# Altium integrated library Infineon_Microcontroller.IntLib: 721 symbols (part 8 of 66)
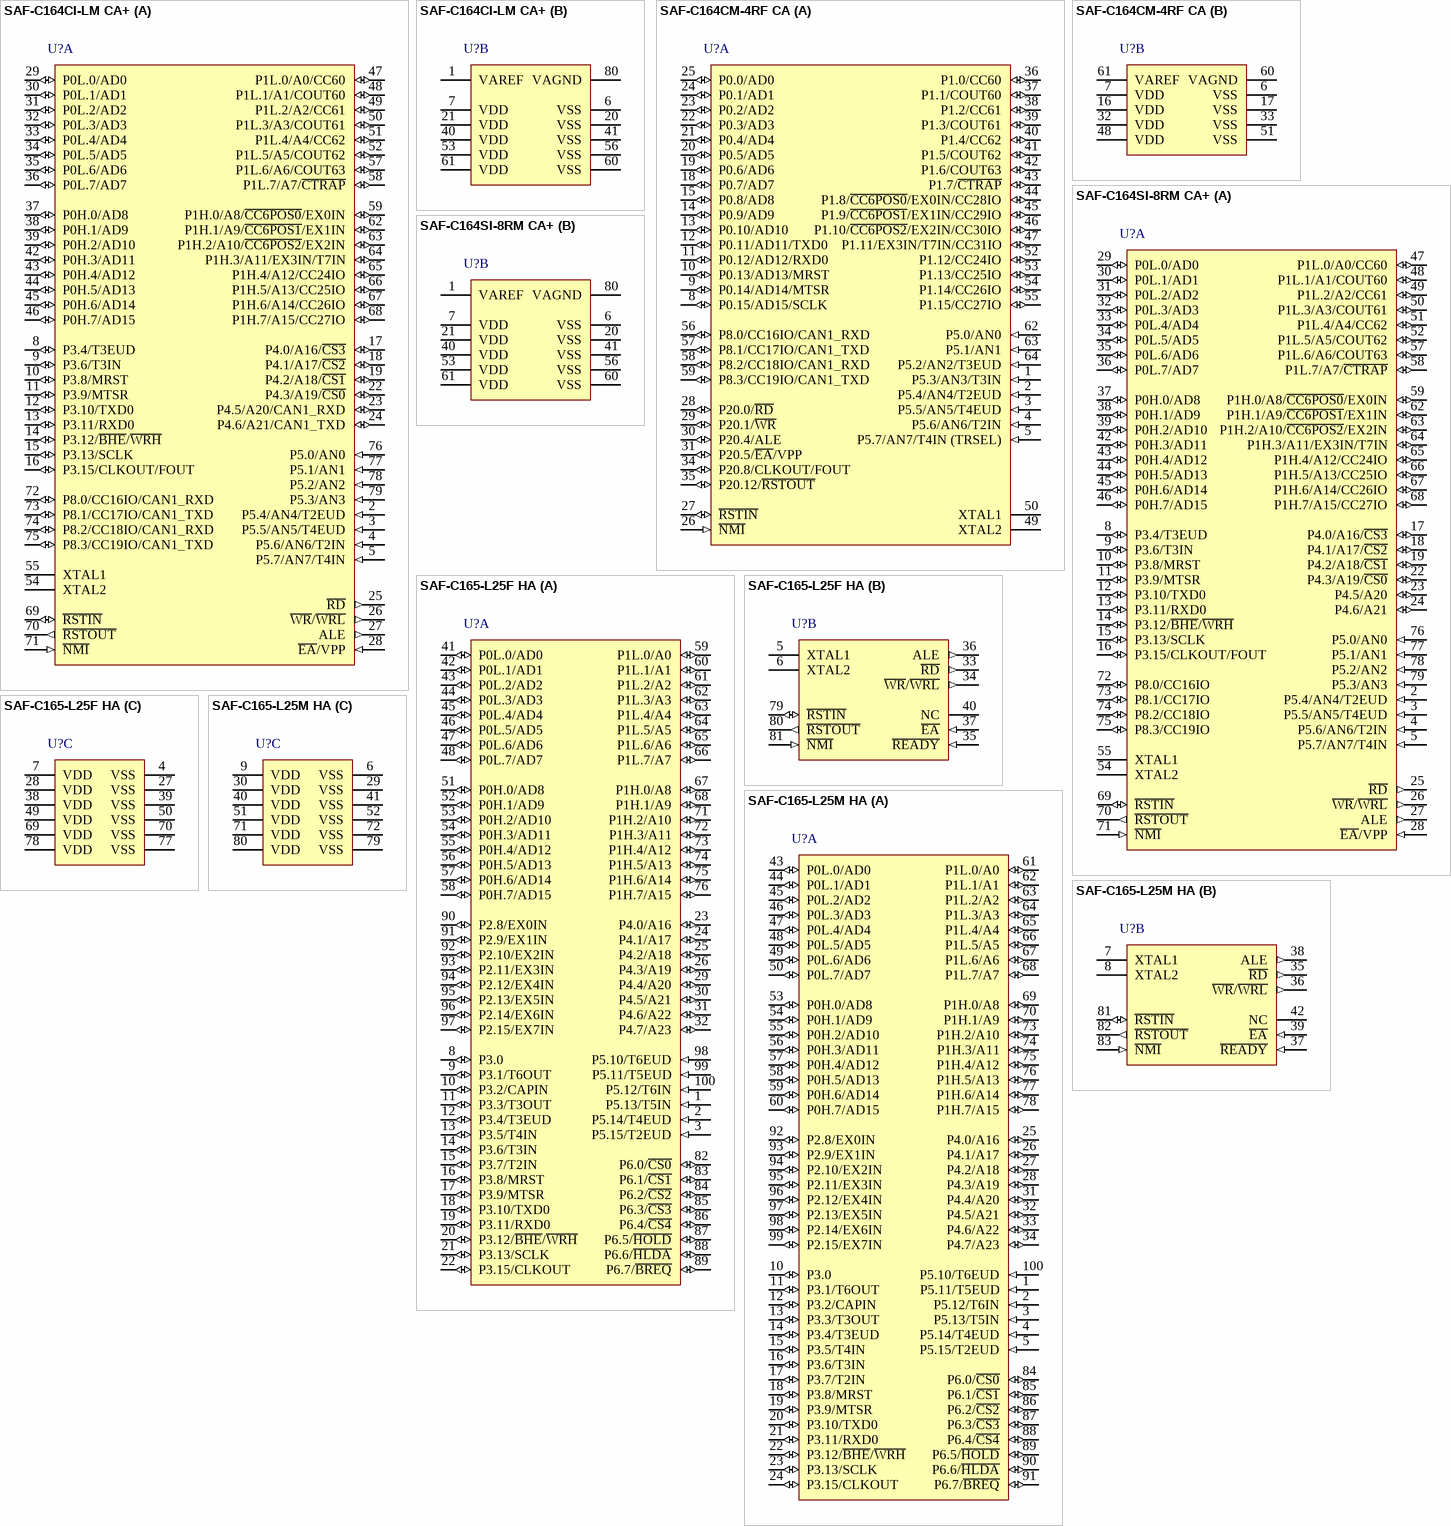
[diagram p125: symbols SAF-C164CI-LM CA+ to SAF-C165-L25M HA]

## SAF-C165-L25M HA
designator U?
25 MHz C166 MCU without Program Memory, 2 KByte SRAM, 5 V, -40 to 85 degC, PG-MQFP-100, Reel, Green; Manufacturer: Infineon; PartNumber: SAF-C165-L25M HA; A / D input lines (incl. FADC): 0; Digital I/O Lines: 77; DSP functionality (e.g MDU/MAC): TRUE; I/O Operation Voltages: 5 V; Instruction width [bits]: 16; Max Clock Frequency: 25 MHz; Oscillator Watchdog: FALSE; Power Modes: 3; Serial I/O Interfaces: 2; SRAM (incl. Cache): 2 KByte; Timer / Counter: 5; Type of Memory: ROM less; Type of Serial I/O Interfaces: ASC(1), SSC(1); DatasheetVersion: Rev. 2.0; PackageVersion: V2.0, 12/2000; PackageReference: P-TQFP-100-1; PackageDescription: 100-Pin Plastic Thin Metric Quad Flat Package, Body 14 x 14 mm, Pitch 0.5 mm; Supplier 1: Mouser; Supplier Part Number 1: 726-SAFC165L25MHA; Supplier 2: Digi-Key; Supplier Part Number 2: SAF-C165-L25MHAINTR-ND; Supplier 3: Digi-Key; Supplier Part Number 3: SAF-C165-L25MHAINCT-ND; CAN Nodes: 0; DMA Channels: 0; External Bus interface: TRUE; Green: TRUE; Halogen-free: TRUE; Number of ADC Modules: 0; Packing: Reel; Real Time Clock (RTC): FALSE; Timed I/O Pins (PWM-Ch,CAPCOM): 0; Watchdog Timer: TRUE; Mounting Technology: Surface Mount; ComponentLink1Description: Manufacturer URL; ComponentLink1URL: http://www.infineon.com/; ComponentLink2Description: Datasheet; ComponentLink2URL: http://www.infineon.com/dgdl/c165_ds_v20_2000_12_3.pdf?folderId=db3a304412b407950112b408e8c90004&fileId=db3a304412b407950112b43605e9644c; ComponentLink3Description: Package Specification; ComponentLink3URL: http://www.google.com/url?q=http://www.infineon.com/dgdl/c165_ds_v20_2000_12_1.pdf?folderId%3Ddb3a304412b407950112b408e8c90004%26fileId%3Ddb3a304412b407950112b43a4ef16fe7&sa=D&usg=ALhdy28l__9bJHCFc89ioLI6B1XModLc3w
footprint INF-P-TQFP-100-1_N (QFP, 100-Leads, Body 14x14mm, Pitch 0.5mm, IPC Medium Density)
footprint INF-P-TQFP-100-1_L (QFP, 100-Leads, Body 14x14mm, Pitch 0.5mm, IPC High Density)
footprint INF-P-TQFP-100-1_M (QFP, 100-Leads, Body 14x14mm, Pitch 0.5mm, IPC Low Density)
part A pins: 1 P5.11/T5EUD (in), 2 P5.12/T6IN (in), 3 P5.13/T5IN (in), 4 P5.14/T4EUD (in), 5 P5.15/T2EUD (in), 10 P3.0 (io) "15-bit bidirectional I/O port. It is bit-wise programmable for input or output via direction bits.For a pin configured as input, the output driver is put into high-impedance state. Port 3 outputs can be configured as (See Datasheet)", 11 P3.1/T6OUT (io), 12 P3.2/CAPIN (io), 13 P3.3/T3OUT (io), 14 P3.4/T3EUD (io), 15 P3.5/T4IN (io), 16 P3.6/T3IN (io), 17 P3.7/T2IN (io), 18 P3.8/MRST (io), 19 P3.9/MTSR (io), 20 P3.10/TXD0 (io), 21 P3.11/RXD0 (io), 22 P3.12/~{BHE}/~{WRH} (io), 23 P3.13/SCLK (io), 24 P3.15/CLKOUT (io), 25 P4.0/A16 (io), 26 P4.1/A17 (io), 27 P4.2/A18 (io), 28 P4.3/A19 (io), 31 P4.4/A20 (io), 32 P4.5/A21 (io), 33 P4.6/A22 (io), 34 P4.7/A23 (io), 43 P0L.0/AD0 (io), 44 P0L.1/AD1 (io), 45 P0L.2/AD2 (io), 46 P0L.3/AD3 (io), 47 P0L.4/AD4 (io), 48 P0L.5/AD5 (io), 49 P0L.6/AD6 (io), 50 P0L.7/AD7 (io), 53 P0H.0/AD8 (io), 54 P0H.1/AD9 (io), 55 P0H.2/AD10 (io), 56 P0H.3/AD11 (io), 57 P0H.4/AD12 (io), 58 P0H.5/AD13 (io), 59 P0H.6/AD14 (io), 60 P0H.7/AD15 (io), 61 P1L.0/A0 (io), 62 P1L.1/A1 (io), 63 P1L.2/A2 (io), 64 P1L.3/A3 (io), 65 P1L.4/A4 (io), 66 P1L.5/A5 (io), 67 P1L.6/A6 (io), 68 P1L.7/A7 (io), 69 P1H.0/A8 (io), 70 P1H.1/A9 (io), 73 P1H.2/A10 (io), 74 P1H.3/A11 (io), 75 P1H.4/A12 (io), 76 P1H.5/A13 (io), 77 P1H.6/A14 (io), 78 P1H.7/A15 (io), 84 P6.0/~{CS0} (io), 85 P6.1/~{CS1} (io), 86 P6.2/~{CS2} (io), 87 P6.3/~{CS3} (io), 88 P6.4/~{CS4} (io), 89 P6.5/~{HOLD} (io), 90 P6.6/~{HLDA} (io), 91 P6.7/~{BREQ} (io), 92 P2.8/EX0IN (io), 93 P2.9/EX1IN (io), 94 P2.10/EX2IN (io), 95 P2.11/EX3IN (io), 96 P2.12/EX4IN (io), 97 P2.13/EX5IN (io), 98 P2.14/EX6IN (io), 99 P2.15/EX7IN (io), 100 P5.10/T6EUD (in)
part B pins: 7 XTAL1 "Input to the oscillator amplifier and input to the internal clock generator", 8 XTAL2 "Output of the oscillator amplifier circuit.", 35 ~{RD} (out) "External Memory Read Strobe. R\D\ is activated for every external instruction or data read access.", 36 ~{WR}/~{WRL} (out) "External MemoryWrite Strobe. In W\R\-mode this pin is activated for every external data Write access. In W\R\L\-mode this pin is activated for low byte data write accesses on a 16-bit bus, and for every data W\R\ite access (See Datasheet)", 37 ~{READY} (in) "Ready Input. When the Ready function is enabled, a high level at this pin during an external memory access will force the insertion of memory cycle waitstates until the pin returns to a low level. An internal pullup device (See Datasheet)", 38 ALE (out) "Address Latch Enable Output. Can be used for latching the address into external memory or an address latch in the multiplexed bus modes.", 39 ~{EA} (in) "External Access Enable pin. A low level at this pin during and after Reset forces the C165 to begin instruction execution out of external memory. A high level forces execution out of the internal program memory. (See Datasheet)", 42 NC "This pin is not connected in the C165.", 81 ~{RSTIN} (io) "Reset Input with Schmitt-Trigger characteristics. A low level at this pin while the oscillator is running resets the C165. An internal pullup resistor permits power-on reset using only a capacitor connected to VSS. A spike (See Datasheet)", 82 ~{RSTOUT} (out) "Internal Reset Indication Output. This pin is set to a low level when the part is executing either a hardware-, a software- or a watchdog timer reset. R\S\T\O\U\T\ remains low until the EINIT (end of initialization) (See Datasheet)", 83 ~{NMI} (in) "Non-Maskable Interrupt Input. A high to low transition at this pin causes the CPU to vector to the NMI trap routine. When the PWRDN (power down) instruction is executed, the N\M\I\ pin must be low in order to force the C165 (See Datasheet)"
part C pins: 6 VSS (power) "Digital Ground.", 9 VDD (power) "Digital Supply Voltage:+ 5 V or + 3 V during normal operation and idle mode.= 2.5 V during power down mode.", 29 VSS (power) "Digital Ground.", 30 VDD (power) "Digital Supply Voltage:+ 5 V or + 3 V during normal operation and idle mode.= 2.5 V during power down mode.", 40 VDD (power) "Digital Supply Voltage:+ 5 V or + 3 V during normal operation and idle mode.= 2.5 V during power down mode.", 41 VSS (power) "Digital Ground.", 51 VDD (power) "Digital Supply Voltage:+ 5 V or + 3 V during normal operation and idle mode.= 2.5 V during power down mode.", 52 VSS (power) "Digital Ground.", 71 VDD (power) "Digital Supply Voltage:+ 5 V or + 3 V during normal operation and idle mode.= 2.5 V during power down mode.", 72 VSS (power) "Digital Ground.", 79 VSS (power) "Digital Ground.", 80 VDD (power) "Digital Supply Voltage:+ 5 V or + 3 V during normal operation and idle mode.= 2.5 V during power down mode."

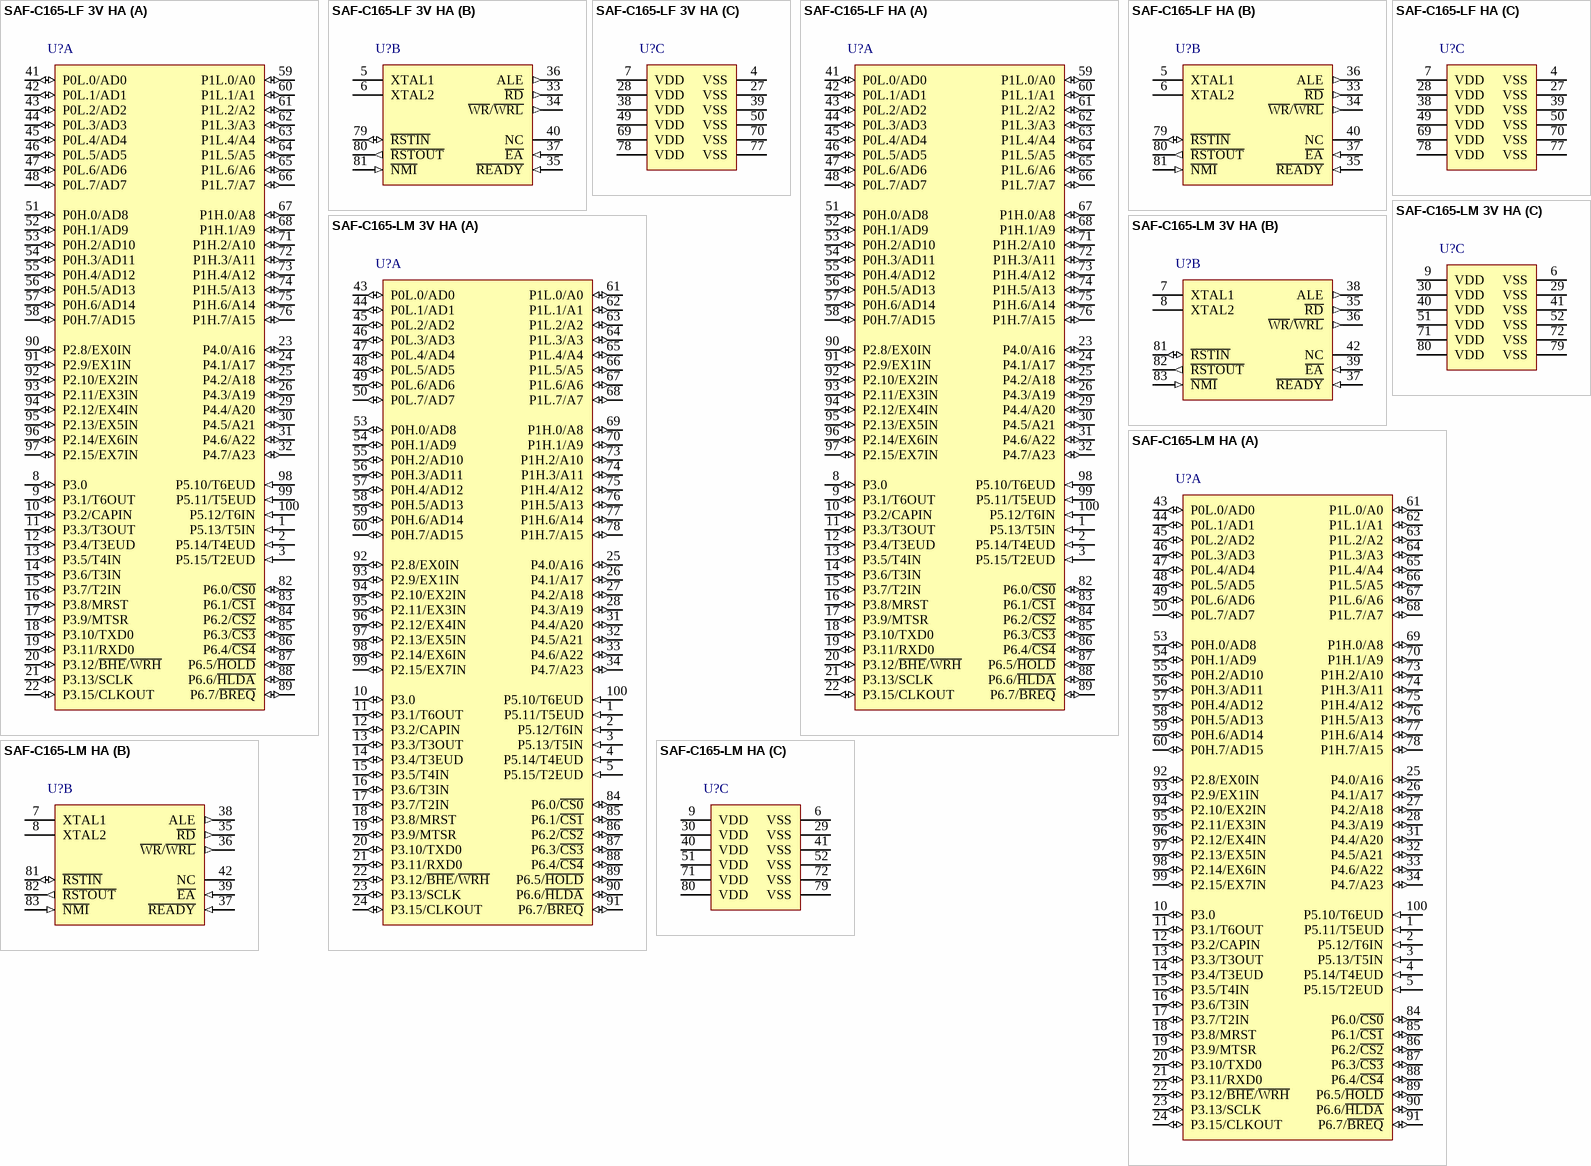
[diagram p11: symbols SAF-C165-LF 3V HA to SAF-C165-LM HA]

## SAF-C165-LF 3V HA
designator U?
20 MHz C166 MCU without Program Memory, 2 KByte SRAM, 3.3 V, -40 to 85 degC, PG-TQFP-100, Reel, Green; Manufacturer: Infineon; PartNumber: SAF-C165-LF 3V HA; A / D input lines (incl. FADC): 0; Digital I/O Lines: 77; DSP functionality (e.g MDU/MAC): TRUE; I/O Operation Voltages: 3.3 V; Instruction width [bits]: 16; Max Clock Frequency: 20 MHz; Oscillator Watchdog: FALSE; Power Modes: 3; Serial I/O Interfaces: 2; SRAM (incl. Cache): 2 KByte; Timer / Counter: 5; Type of Memory: ROM less; Type of Serial I/O Interfaces: ASC(1), SSC(1); DatasheetVersion: Rev. 2.0; PackageVersion: V2.0, 12/2000; PackageReference: P-TQFP-100-1; PackageDescription: 100-Pin Plastic Thin Metric Quad Flat Package, Body 14 x 14 mm, Pitch 0.5 mm; Supplier 1: Digi-Key; Supplier Part Number 1: SAF-C165-LF3VHAINTR-ND; Supplier 2: Digi-Key; Supplier Part Number 2: SAF-C165-LF3VHAINCT-ND; Supplier 3: Digi-Key; Supplier Part Number 3: SAF-C165-LF3VHAINDKR-ND; CAN Nodes: 0; DMA Channels: 0; External Bus interface: TRUE; Green: TRUE; Halogen-free: TRUE; Number of ADC Modules: 0; Packing: Reel; Real Time Clock (RTC): FALSE; Timed I/O Pins (PWM-Ch,CAPCOM): 0; Watchdog Timer: TRUE; Mounting Technology: Surface Mount; ComponentLink1Description: Manufacturer URL; ComponentLink1URL: http://www.infineon.com/; ComponentLink2Description: Datasheet; ComponentLink2URL: http://www.infineon.com/dgdl/c165_ds_v20_2000_12_2.pdf?folderId=db3a304412b407950112b408e8c90004&fileId=db3a304412b407950112b43600b36448; ComponentLink3Description: Package Specification; ComponentLink3URL: http://www.google.com/url?q=http://www.infineon.com/dgdl/c165_ds_v20_2000_12_1.pdf?folderId%3Ddb3a304412b407950112b408e8c90004%26fileId%3Ddb3a304412b407950112b43a4ef16fe7&sa=D&usg=ALhdy28l__9bJHCFc89ioLI6B1XModLc3w
footprint INF-P-TQFP-100-1_N (QFP, 100-Leads, Body 14x14mm, Pitch 0.5mm, IPC Medium Density)
footprint INF-P-TQFP-100-1_L (QFP, 100-Leads, Body 14x14mm, Pitch 0.5mm, IPC High Density)
footprint INF-P-TQFP-100-1_M (QFP, 100-Leads, Body 14x14mm, Pitch 0.5mm, IPC Low Density)
part A pins: 1 P5.13/T5IN (in), 2 P5.14/T4EUD (in), 3 P5.15/T2EUD (in), 8 P3.0 (io) "15-bit bidirectional I/O port. It is bit-wise programmable for input or output via direction bits.For a pin configured as input, the output driver is put into high-impedance state. Port 3 outputs can be configured as (See Datasheet)", 9 P3.1/T6OUT (io), 10 P3.2/CAPIN (io), 11 P3.3/T3OUT (io), 12 P3.4/T3EUD (io), 13 P3.5/T4IN (io), 14 P3.6/T3IN (io), 15 P3.7/T2IN (io), 16 P3.8/MRST (io), 17 P3.9/MTSR (io), 18 P3.10/TXD0 (io), 19 P3.11/RXD0 (io), 20 P3.12/~{BHE}/~{WRH} (io), 21 P3.13/SCLK (io), 22 P3.15/CLKOUT (io), 23 P4.0/A16 (io), 24 P4.1/A17 (io), 25 P4.2/A18 (io), 26 P4.3/A19 (io), 29 P4.4/A20 (io), 30 P4.5/A21 (io), 31 P4.6/A22 (io), 32 P4.7/A23 (io), 41 P0L.0/AD0 (io), 42 P0L.1/AD1 (io), 43 P0L.2/AD2 (io), 44 P0L.3/AD3 (io), 45 P0L.4/AD4 (io), 46 P0L.5/AD5 (io), 47 P0L.6/AD6 (io), 48 P0L.7/AD7 (io), 51 P0H.0/AD8 (io), 52 P0H.1/AD9 (io), 53 P0H.2/AD10 (io), 54 P0H.3/AD11 (io), 55 P0H.4/AD12 (io), 56 P0H.5/AD13 (io), 57 P0H.6/AD14 (io), 58 P0H.7/AD15 (io), 59 P1L.0/A0 (io), 60 P1L.1/A1 (io), 61 P1L.2/A2 (io), 62 P1L.3/A3 (io), 63 P1L.4/A4 (io), 64 P1L.5/A5 (io), 65 P1L.6/A6 (io), 66 P1L.7/A7 (io), 67 P1H.0/A8 (io), 68 P1H.1/A9 (io), 71 P1H.2/A10 (io), 72 P1H.3/A11 (io), 73 P1H.4/A12 (io), 74 P1H.5/A13 (io), 75 P1H.6/A14 (io), 76 P1H.7/A15 (io), 82 P6.0/~{CS0} (io), 83 P6.1/~{CS1} (io), 84 P6.2/~{CS2} (io), 85 P6.3/~{CS3} (io), 86 P6.4/~{CS4} (io), 87 P6.5/~{HOLD} (io), 88 P6.6/~{HLDA} (io), 89 P6.7/~{BREQ} (io), 90 P2.8/EX0IN (io), 91 P2.9/EX1IN (io), 92 P2.10/EX2IN (io), 93 P2.11/EX3IN (io), 94 P2.12/EX4IN (io), 95 P2.13/EX5IN (io), 96 P2.14/EX6IN (io), 97 P2.15/EX7IN (io), 98 P5.10/T6EUD (in), 99 P5.11/T5EUD (in), 100 P5.12/T6IN (in)
part B pins: 5 XTAL1 "Input to the oscillator amplifier and input to the internal clock generator", 6 XTAL2 "Output of the oscillator amplifier circuit.", 33 ~{RD} (out) "External Memory Read Strobe. R\D\ is activated for every external instruction or data read access.", 34 ~{WR}/~{WRL} (out) "External MemoryWrite Strobe. In W\R\-mode this pin is activated for every external data Write access. In W\R\L\-mode this pin is activated for low byte data WRCFG accesses on a 16-bit bus, and for every data wriite access on (See Datasheet)", 35 ~{READY} (in) "Ready Input. When the Ready function is enabled, a high level at this pin during an external memory access will force the insertion of memory cycle waitstates until the pin returns to a low level. An internal pullup device (See Datasheet)", 36 ALE (out) "Address Latch Enable Output. Can be used for latching the address into external memory or an address latch in the multiplexed bus modes.", 37 ~{EA} (in) "External Access Enable pin. A low level at this pin during and after Reset forces the C165 to begin instruction execution out of external memory. A high level forces execution out of the internal program memory. (See Datasheet)", 40 NC "This pin is not connected in the C165.", 79 ~{RSTIN} (io) "Reset Input with Schmitt-Trigger characteristics. A low level at this pin while the oscillator is running resets the C165. An internal pullup resistor permits power-on reset using only a capacitor connected to VSS. A spike (See Datasheet)", 80 ~{RSTOUT} (out) "Internal Reset Indication Output. This pin is set to a low level when the part is executing either a hardware-, a software- or a watchdog timer reset. R\S\T\O\U\T\ remains low until the EINIT (end of initialization) (See Datasheet)", 81 ~{NMI} (in) "Non-Maskable Interrupt Input. A high to low transition at this pin causes the CPU to vector to the NMI trap routine. When the PWRDN (power down) instruction is executed, the N\M\I\ pin must be low in order to force the C165 (See Datasheet)"
part C pins: 4 VSS (power) "Digital Ground.", 7 VDD (power) "Digital Supply Voltage:+ 5 V or + 3 V during normal operation and idle mode.>= 2.5 V during power down mode.", 27 VSS (power) "Digital Ground.", 28 VDD (power) "Digital Supply Voltage:+ 5 V or + 3 V during normal operation and idle mode.>= 2.5 V during power down mode.", 38 VDD (power) "Digital Supply Voltage:+ 5 V or + 3 V during normal operation and idle mode.>= 2.5 V during power down mode.", 39 VSS (power) "Digital Ground.", 49 VDD (power) "Digital Supply Voltage:+ 5 V or + 3 V during normal operation and idle mode.>= 2.5 V during power down mode.", 50 VSS (power) "Digital Ground.", 69 VDD (power) "Digital Supply Voltage:+ 5 V or + 3 V during normal operation and idle mode.>= 2.5 V during power down mode.", 70 VSS (power) "Digital Ground.", 77 VSS (power) "Digital Ground.", 78 VDD (power) "Digital Supply Voltage:+ 5 V or + 3 V during normal operation and idle mode.>= 2.5 V during power down mode."

## SAF-C165-LF HA
designator U?
20 MHz C166 MCU without Program Memory, 2 KByte SRAM, 5 V, -40 to 85 degC, PG-TQFP-100, Reel, Green; Manufacturer: Infineon; PartNumber: SAF-C165-LF HA; A / D input lines (incl. FADC): 0; Digital I/O Lines: 77; DSP functionality (e.g MDU/MAC): TRUE; I/O Operation Voltages: 5 V; Instruction width [bits]: 16; Max Clock Frequency: 20 MHz; Oscillator Watchdog: FALSE; Power Modes: 3; Serial I/O Interfaces: 2; SRAM (incl. Cache): 2 KByte; Timer / Counter: 5; Type of Memory: ROM less; Type of Serial I/O Interfaces: ASC(1), SSC(1); DatasheetVersion: Rev. 2.0; PackageVersion: V2.0, 12/2000; PackageReference: P-TQFP-100-1; PackageDescription: 100-Pin Plastic Thin Metric Quad Flat Package, Body 14 x 14 mm, Pitch 0.5 mm; Supplier 1: Mouser; Supplier Part Number 1: 726-SAFC165LFHA; Supplier 2: Digi-Key; Supplier Part Number 2: SAF-C165-LFHAINTR-ND; Supplier 3: Digi-Key; Supplier Part Number 3: SAF-C165-LFHAINCT-ND; Supplier 4: Digi-Key; Supplier Part Number 4: SAF-C165-LFHAINDKR-ND; CAN Nodes: 0; DMA Channels: 0; External Bus interface: TRUE; Green: TRUE; Halogen-free: TRUE; Number of ADC Modules: 0; Packing: Reel; Real Time Clock (RTC): FALSE; Timed I/O Pins (PWM-Ch,CAPCOM): 0; Watchdog Timer: TRUE; Mounting Technology: Surface Mount; ComponentLink1Description: Manufacturer URL; ComponentLink1URL: http://www.infineon.com/; ComponentLink2Description: Datasheet; ComponentLink2URL: http://www.infineon.com/dgdl/c165_ds_v20_2000_12_6.pdf?folderId=db3a304412b407950112b408e8c90004&fileId=db3a304412b407950112b43627ad64d8; ComponentLink3Description: Package Specification; ComponentLink3URL: http://www.google.com/url?q=http://www.infineon.com/dgdl/c165_ds_v20_2000_12_1.pdf?folderId%3Ddb3a304412b407950112b408e8c90004%26fileId%3Ddb3a304412b407950112b43a4ef16fe7&sa=D&usg=ALhdy28l__9bJHCFc89ioLI6B1XModLc3w
footprint INF-P-TQFP-100-1_N (QFP, 100-Leads, Body 14x14mm, Pitch 0.5mm, IPC Medium Density)
footprint INF-P-TQFP-100-1_L (QFP, 100-Leads, Body 14x14mm, Pitch 0.5mm, IPC High Density)
footprint INF-P-TQFP-100-1_M (QFP, 100-Leads, Body 14x14mm, Pitch 0.5mm, IPC Low Density)
part A pins: 1 P5.13/T5IN (in), 2 P5.14/T4EUD (in), 3 P5.15/T2EUD (in), 8 P3.0 (io) "15-bit bidirectional I/O port. It is bit-wise programmable for input or output via direction bits.For a pin configured as input, the output driver is put into high-impedance state. Port 3 outputs can be configured as (See Datasheet)", 9 P3.1/T6OUT (io), 10 P3.2/CAPIN (io), 11 P3.3/T3OUT (io), 12 P3.4/T3EUD (io), 13 P3.5/T4IN (io), 14 P3.6/T3IN (io), 15 P3.7/T2IN (io), 16 P3.8/MRST (io), 17 P3.9/MTSR (io), 18 P3.10/TXD0 (io), 19 P3.11/RXD0 (io), 20 P3.12/~{BHE}/~{WRH} (io), 21 P3.13/SCLK (io), 22 P3.15/CLKOUT (io), 23 P4.0/A16 (io), 24 P4.1/A17 (io), 25 P4.2/A18 (io), 26 P4.3/A19 (io), 29 P4.4/A20 (io), 30 P4.5/A21 (io), 31 P4.6/A22 (io), 32 P4.7/A23 (io), 41 P0L.0/AD0 (io), 42 P0L.1/AD1 (io), 43 P0L.2/AD2 (io), 44 P0L.3/AD3 (io), 45 P0L.4/AD4 (io), 46 P0L.5/AD5 (io), 47 P0L.6/AD6 (io), 48 P0L.7/AD7 (io), 51 P0H.0/AD8 (io), 52 P0H.1/AD9 (io), 53 P0H.2/AD10 (io), 54 P0H.3/AD11 (io), 55 P0H.4/AD12 (io), 56 P0H.5/AD13 (io), 57 P0H.6/AD14 (io), 58 P0H.7/AD15 (io), 59 P1L.0/A0 (io), 60 P1L.1/A1 (io), 61 P1L.2/A2 (io), 62 P1L.3/A3 (io), 63 P1L.4/A4 (io), 64 P1L.5/A5 (io), 65 P1L.6/A6 (io), 66 P1L.7/A7 (io), 67 P1H.0/A8 (io), 68 P1H.1/A9 (io), 71 P1H.2/A10 (io), 72 P1H.3/A11 (io), 73 P1H.4/A12 (io), 74 P1H.5/A13 (io), 75 P1H.6/A14 (io), 76 P1H.7/A15 (io), 82 P6.0/~{CS0} (io), 83 P6.1/~{CS1} (io), 84 P6.2/~{CS2} (io), 85 P6.3/~{CS3} (io), 86 P6.4/~{CS4} (io), 87 P6.5/~{HOLD} (io), 88 P6.6/~{HLDA} (io), 89 P6.7/~{BREQ} (io), 90 P2.8/EX0IN (io), 91 P2.9/EX1IN (io), 92 P2.10/EX2IN (io), 93 P2.11/EX3IN (io), 94 P2.12/EX4IN (io), 95 P2.13/EX5IN (io), 96 P2.14/EX6IN (io), 97 P2.15/EX7IN (io), 98 P5.10/T6EUD (in), 99 P5.11/T5EUD (in), 100 P5.12/T6IN (in)
part B pins: 5 XTAL1 "Input to the oscillator amplifier and input to the internal clock generator", 6 XTAL2 "Output of the oscillator amplifier circuit.", 33 ~{RD} (out) "External Memory Read Strobe. R\D\ is activated for every external instruction or data read access.", 34 ~{WR}/~{WRL} (out) "External MemoryWrite Strobe. In W\R\-mode this pin is activated for every external data Write access. In W\R\L\-mode this pin is activated for low byte data WRCFG accesses on a 16-bit bus, and for every data wriite access on (See Datasheet)", 35 ~{READY} (in) "Ready Input. When the Ready function is enabled, a high level at this pin during an external memory access will force the insertion of memory cycle waitstates until the pin returns to a low level. An internal pullup device (See Datasheet)", 36 ALE (out) "Address Latch Enable Output. Can be used for latching the address into external memory or an address latch in the multiplexed bus modes.", 37 ~{EA} (in) "External Access Enable pin. A low level at this pin during and after Reset forces the C165 to begin instruction execution out of external memory. A high level forces execution out of the internal program memory. (See Datasheet)", 40 NC "This pin is not connected in the C165.", 79 ~{RSTIN} (io) "Reset Input with Schmitt-Trigger characteristics. A low level at this pin while the oscillator is running resets the C165. An internal pullup resistor permits power-on reset using only a capacitor connected to VSS. A spike (See Datasheet)", 80 ~{RSTOUT} (out) "Internal Reset Indication Output. This pin is set to a low level when the part is executing either a hardware-, a software- or a watchdog timer reset. R\S\T\O\U\T\ remains low until the EINIT (end of initialization) (See Datasheet)", 81 ~{NMI} (in) "Non-Maskable Interrupt Input. A high to low transition at this pin causes the CPU to vector to the NMI trap routine. When the PWRDN (power down) instruction is executed, the N\M\I\ pin must be low in order to force the C165 (See Datasheet)"
part C pins: 4 VSS (power) "Digital Ground.", 7 VDD (power) "Digital Supply Voltage:+ 5 V or + 3 V during normal operation and idle mode.>= 2.5 V during power down mode.", 27 VSS (power) "Digital Ground.", 28 VDD (power) "Digital Supply Voltage:+ 5 V or + 3 V during normal operation and idle mode.>= 2.5 V during power down mode.", 38 VDD (power) "Digital Supply Voltage:+ 5 V or + 3 V during normal operation and idle mode.>= 2.5 V during power down mode.", 39 VSS (power) "Digital Ground.", 49 VDD (power) "Digital Supply Voltage:+ 5 V or + 3 V during normal operation and idle mode.>= 2.5 V during power down mode.", 50 VSS (power) "Digital Ground.", 69 VDD (power) "Digital Supply Voltage:+ 5 V or + 3 V during normal operation and idle mode.>= 2.5 V during power down mode.", 70 VSS (power) "Digital Ground.", 77 VSS (power) "Digital Ground.", 78 VDD (power) "Digital Supply Voltage:+ 5 V or + 3 V during normal operation and idle mode.>= 2.5 V during power down mode."

## SAF-C165-LM 3V HA
designator U?
20 MHz C166 MCU without Program Memory, 2 KByte SRAM, 3.3 V, -40 to 85 degC, PG-MQFP-100, Reel, Green; Manufacturer: Infineon; PartNumber: SAF-C165-LM 3V HA; A / D input lines (incl. FADC): 0; Digital I/O Lines: 77; DSP functionality (e.g MDU/MAC): TRUE; I/O Operation Voltages: 3.3 V; Instruction width [bits]: 16; Max Clock Frequency: 20 MHz; Oscillator Watchdog: FALSE; Power Modes: 3; Serial I/O Interfaces: 2; SRAM (incl. Cache): 2 KByte; Timer / Counter: 5; Type of Memory: ROM less; Type of Serial I/O Interfaces: ASC(1), SSC(1); DatasheetVersion: Rev. 2.0; PackageReference: P-MQFP-100-2; PackageDescription: 100-Pin Plastic Metric Quad Flat Package, Body 20 x 14 mm, Pitch 0.65 mm; Supplier 1: Digi-Key; Supplier Part Number 1: SAF-C165-LM3VHAINTR-ND; Supplier 2: Digi-Key; Supplier Part Number 2: SAF-C165-LM3VHAINCT-ND; CAN Nodes: 0; DMA Channels: 0; External Bus interface: TRUE; Green: TRUE; Halogen-free: TRUE; Number of ADC Modules: 0; Packing: Reel; Real Time Clock (RTC): FALSE; Timed I/O Pins (PWM-Ch,CAPCOM): 0; Watchdog Timer: TRUE; Mounting Technology: Surface Mount; ComponentLink1Description: Manufacturer URL; ComponentLink1URL: http://www.infineon.com/; ComponentLink2Description: Datasheet; ComponentLink2URL: http://www.infineon.com/dgdl/c165_ds_v20_2000_12_5.pdf?folderId=db3a304412b407950112b408e8c90004&fileId=db3a304412b407950112b4360ee86454; ComponentLink3Description: Package Specification; ComponentLink3URL: http://www.infineon.com/cms/packages/SMD_-_Surface_Mounted_Devices/P-PG-MQFP/P-PG-MQFP-100-02.html?__locale=en
footprint INF-P-MQFP-100-2_N (QFP, 100-Leads, Body 20x14mm, Pitch 0.65mm, IPC Medium Density)
footprint INF-P-MQFP-100-2_L (QFP, 100-Leads, Body 20x14mm, Pitch 0.65mm, IPC High Density)
footprint INF-P-MQFP-100-2_M (QFP, 100-Leads, Body 20x14mm, Pitch 0.65mm, IPC Low Density)
part A pins: 1 P5.11/T5EUD (in), 2 P5.12/T6IN (in), 3 P5.13/T5IN (in), 4 P5.14/T4EUD (in), 5 P5.15/T2EUD (in), 10 P3.0 (io) "15-bit bidirectional I/O port. It is bit-wise programmable for input or output via direction bits.For a pin configured as input, the output driver is put into high-impedance state. Port 3 outputs can be configured as (See Datasheet)", 11 P3.1/T6OUT (io), 12 P3.2/CAPIN (io), 13 P3.3/T3OUT (io), 14 P3.4/T3EUD (io), 15 P3.5/T4IN (io), 16 P3.6/T3IN (io), 17 P3.7/T2IN (io), 18 P3.8/MRST (io), 19 P3.9/MTSR (io), 20 P3.10/TXD0 (io), 21 P3.11/RXD0 (io), 22 P3.12/~{BHE}/~{WRH} (io), 23 P3.13/SCLK (io), 24 P3.15/CLKOUT (io), 25 P4.0/A16 (io), 26 P4.1/A17 (io), 27 P4.2/A18 (io), 28 P4.3/A19 (io), 31 P4.4/A20 (io), 32 P4.5/A21 (io), 33 P4.6/A22 (io), 34 P4.7/A23 (io), 43 P0L.0/AD0 (io), 44 P0L.1/AD1 (io), 45 P0L.2/AD2 (io), 46 P0L.3/AD3 (io), 47 P0L.4/AD4 (io), 48 P0L.5/AD5 (io), 49 P0L.6/AD6 (io), 50 P0L.7/AD7 (io), 53 P0H.0/AD8 (io), 54 P0H.1/AD9 (io), 55 P0H.2/AD10 (io), 56 P0H.3/AD11 (io), 57 P0H.4/AD12 (io), 58 P0H.5/AD13 (io), 59 P0H.6/AD14 (io), 60 P0H.7/AD15 (io), 61 P1L.0/A0 (io), 62 P1L.1/A1 (io), 63 P1L.2/A2 (io), 64 P1L.3/A3 (io), 65 P1L.4/A4 (io), 66 P1L.5/A5 (io), 67 P1L.6/A6 (io), 68 P1L.7/A7 (io), 69 P1H.0/A8 (io), 70 P1H.1/A9 (io), 73 P1H.2/A10 (io), 74 P1H.3/A11 (io), 75 P1H.4/A12 (io), 76 P1H.5/A13 (io), 77 P1H.6/A14 (io), 78 P1H.7/A15 (io), 84 P6.0/~{CS0} (io), 85 P6.1/~{CS1} (io), 86 P6.2/~{CS2} (io), 87 P6.3/~{CS3} (io), 88 P6.4/~{CS4} (io), 89 P6.5/~{HOLD} (io), 90 P6.6/~{HLDA} (io), 91 P6.7/~{BREQ} (io), 92 P2.8/EX0IN (io), 93 P2.9/EX1IN (io), 94 P2.10/EX2IN (io), 95 P2.11/EX3IN (io), 96 P2.12/EX4IN (io), 97 P2.13/EX5IN (io), 98 P2.14/EX6IN (io), 99 P2.15/EX7IN (io), 100 P5.10/T6EUD (in)
part B pins: 7 XTAL1 "Input to the oscillator amplifier and input to the internal clock generator", 8 XTAL2 "Output of the oscillator amplifier circuit.", 35 ~{RD} (out) "External Memory Read Strobe. R\D\ is activated for every external instruction or data read access.", 36 ~{WR}/~{WRL} (out) "External MemoryWrite Strobe. In W\R\-mode this pin is activated for every external data Write access. In W\R\L\-mode this pin is activated for low byte data write accesses on a 16-bit bus, and for every data W\R\ite access (See Datasheet)", 37 ~{READY} (in) "Ready Input. When the Ready function is enabled, a high level at this pin during an external memory access will force the insertion of memory cycle waitstates until the pin returns to a low level. An internal pullup device (See Datasheet)", 38 ALE (out) "Address Latch Enable Output. Can be used for latching the address into external memory or an address latch in the multiplexed bus modes.", 39 ~{EA} (in) "External Access Enable pin. A low level at this pin during and after Reset forces the C165 to begin instruction execution out of external memory. A high level forces execution out of the internal program memory. (See Datasheet)", 42 NC "This pin is not connected in the C165.", 81 ~{RSTIN} (io) "Reset Input with Schmitt-Trigger characteristics. A low level at this pin while the oscillator is running resets the C165. An internal pullup resistor permits power-on reset using only a capacitor connected to VSS. A spike (See Datasheet)", 82 ~{RSTOUT} (out) "Internal Reset Indication Output. This pin is set to a low level when the part is executing either a hardware-, a software- or a watchdog timer reset. R\S\T\O\U\T\ remains low until the EINIT (end of initialization) (See Datasheet)", 83 ~{NMI} (in) "Non-Maskable Interrupt Input. A high to low transition at this pin causes the CPU to vector to the NMI trap routine. When the PWRDN (power down) instruction is executed, the N\M\I\ pin must be low in order to force the C165 (See Datasheet)"
part C pins: 6 VSS (power) "Digital Ground.", 9 VDD (power) "Digital Supply Voltage:+ 5 V or + 3 V during normal operation and idle mode.= 2.5 V during power down mode.", 29 VSS (power) "Digital Ground.", 30 VDD (power) "Digital Supply Voltage:+ 5 V or + 3 V during normal operation and idle mode.= 2.5 V during power down mode.", 40 VDD (power) "Digital Supply Voltage:+ 5 V or + 3 V during normal operation and idle mode.= 2.5 V during power down mode.", 41 VSS (power) "Digital Ground.", 51 VDD (power) "Digital Supply Voltage:+ 5 V or + 3 V during normal operation and idle mode.= 2.5 V during power down mode.", 52 VSS (power) "Digital Ground.", 71 VDD (power) "Digital Supply Voltage:+ 5 V or + 3 V during normal operation and idle mode.= 2.5 V during power down mode.", 72 VSS (power) "Digital Ground.", 79 VSS (power) "Digital Ground.", 80 VDD (power) "Digital Supply Voltage:+ 5 V or + 3 V during normal operation and idle mode.= 2.5 V during power down mode."

## SAF-C165-LM HA
designator U?
20 MHz C166 MCU without Program Memory, 2 KByte SRAM, 5 V, -40 to 85 degC, PG-MQFP-100, Tray, Green; Manufacturer: Infineon; PartNumber: SAF-C165-LM HA; A / D input lines (incl. FADC): 0; Digital I/O Lines: 77; DSP functionality (e.g MDU/MAC): TRUE; I/O Operation Voltages: 5 V; Instruction width [bits]: 16; Max Clock Frequency: 20 MHz; Oscillator Watchdog: FALSE; Power Modes: 3; Serial I/O Interfaces: 2; SRAM (incl. Cache): 2 KByte; Timer / Counter: 5; Type of Memory: ROM less; Type of Serial I/O Interfaces: ASC(1), SSC(1); DatasheetVersion: Rev. 2.0; PackageReference: P-MQFP-100-2; PackageDescription: 100-Pin Plastic Metric Quad Flat Package, Body 20 x 14 mm, Pitch 0.65 mm; Supplier 1: Mouser; Supplier Part Number 1: 726-SAFC165LMHA; Supplier 2: Newark; Supplier Part Number 2: 47W3690; Supplier 3: Farnell; Supplier Part Number 3: 2212048; Supplier 4: Digi-Key; Supplier Part Number 4: SAF-C165-LMHAINTR-ND; Supplier 5: Digi-Key; Supplier Part Number 5: SAF-C165-LMHAINCT-ND; CAN Nodes: 0; DMA Channels: 0; External Bus interface: TRUE; Green: TRUE; Halogen-free: TRUE; Number of ADC Modules: 0; Packing: Tray; Real Time Clock (RTC): FALSE; Timed I/O Pins (PWM-Ch,CAPCOM): 0; Watchdog Timer: TRUE; Mounting Technology: Surface Mount; ComponentLink1Description: Manufacturer URL; ComponentLink1URL: http://www.infineon.com/; ComponentLink2Description: Datasheet; ComponentLink2URL: http://www.infineon.com/dgdl/c165_ds_v20_2000_12.pdf?folderId=db3a304412b407950112b43a49166fd6&fileId=db3a304412b407950112b43a49a66fd7; ComponentLink3Description: Package Specification; ComponentLink3URL: http://www.infineon.com/cms/packages/SMD_-_Surface_Mounted_Devices/P-PG-MQFP/P-PG-MQFP-100-02.html?__locale=en
footprint INF-P-MQFP-100-2_N (QFP, 100-Leads, Body 20x14mm, Pitch 0.65mm, IPC Medium Density)
footprint INF-P-MQFP-100-2_L (QFP, 100-Leads, Body 20x14mm, Pitch 0.65mm, IPC High Density)
footprint INF-P-MQFP-100-2_M (QFP, 100-Leads, Body 20x14mm, Pitch 0.65mm, IPC Low Density)
part A pins: 1 P5.11/T5EUD (in), 2 P5.12/T6IN (in), 3 P5.13/T5IN (in), 4 P5.14/T4EUD (in), 5 P5.15/T2EUD (in), 10 P3.0 (io) "15-bit bidirectional I/O port. It is bit-wise programmable for input or output via direction bits.For a pin configured as input, the output driver is put into high-impedance state. Port 3 outputs can be configured as (See Datasheet)", 11 P3.1/T6OUT (io), 12 P3.2/CAPIN (io), 13 P3.3/T3OUT (io), 14 P3.4/T3EUD (io), 15 P3.5/T4IN (io), 16 P3.6/T3IN (io), 17 P3.7/T2IN (io), 18 P3.8/MRST (io), 19 P3.9/MTSR (io), 20 P3.10/TXD0 (io), 21 P3.11/RXD0 (io), 22 P3.12/~{BHE}/~{WRH} (io), 23 P3.13/SCLK (io), 24 P3.15/CLKOUT (io), 25 P4.0/A16 (io), 26 P4.1/A17 (io), 27 P4.2/A18 (io), 28 P4.3/A19 (io), 31 P4.4/A20 (io), 32 P4.5/A21 (io), 33 P4.6/A22 (io), 34 P4.7/A23 (io), 43 P0L.0/AD0 (io), 44 P0L.1/AD1 (io), 45 P0L.2/AD2 (io), 46 P0L.3/AD3 (io), 47 P0L.4/AD4 (io), 48 P0L.5/AD5 (io), 49 P0L.6/AD6 (io), 50 P0L.7/AD7 (io), 53 P0H.0/AD8 (io), 54 P0H.1/AD9 (io), 55 P0H.2/AD10 (io), 56 P0H.3/AD11 (io), 57 P0H.4/AD12 (io), 58 P0H.5/AD13 (io), 59 P0H.6/AD14 (io), 60 P0H.7/AD15 (io), 61 P1L.0/A0 (io), 62 P1L.1/A1 (io), 63 P1L.2/A2 (io), 64 P1L.3/A3 (io), 65 P1L.4/A4 (io), 66 P1L.5/A5 (io), 67 P1L.6/A6 (io), 68 P1L.7/A7 (io), 69 P1H.0/A8 (io), 70 P1H.1/A9 (io), 73 P1H.2/A10 (io), 74 P1H.3/A11 (io), 75 P1H.4/A12 (io), 76 P1H.5/A13 (io), 77 P1H.6/A14 (io), 78 P1H.7/A15 (io), 84 P6.0/~{CS0} (io), 85 P6.1/~{CS1} (io), 86 P6.2/~{CS2} (io), 87 P6.3/~{CS3} (io), 88 P6.4/~{CS4} (io), 89 P6.5/~{HOLD} (io), 90 P6.6/~{HLDA} (io), 91 P6.7/~{BREQ} (io), 92 P2.8/EX0IN (io), 93 P2.9/EX1IN (io), 94 P2.10/EX2IN (io), 95 P2.11/EX3IN (io), 96 P2.12/EX4IN (io), 97 P2.13/EX5IN (io), 98 P2.14/EX6IN (io), 99 P2.15/EX7IN (io), 100 P5.10/T6EUD (in)
part B pins: 7 XTAL1 "Input to the oscillator amplifier and input to the internal clock generator", 8 XTAL2 "Output of the oscillator amplifier circuit.", 35 ~{RD} (out) "External Memory Read Strobe. R\D\ is activated for every external instruction or data read access.", 36 ~{WR}/~{WRL} (out) "External MemoryWrite Strobe. In W\R\-mode this pin is activated for every external data Write access. In W\R\L\-mode this pin is activated for low byte data write accesses on a 16-bit bus, and for every data W\R\ite access (See Datasheet)", 37 ~{READY} (in) "Ready Input. When the Ready function is enabled, a high level at this pin during an external memory access will force the insertion of memory cycle waitstates until the pin returns to a low level. An internal pullup device (See Datasheet)", 38 ALE (out) "Address Latch Enable Output. Can be used for latching the address into external memory or an address latch in the multiplexed bus modes.", 39 ~{EA} (in) "External Access Enable pin. A low level at this pin during and after Reset forces the C165 to begin instruction execution out of external memory. A high level forces execution out of the internal program memory. (See Datasheet)", 42 NC "This pin is not connected in the C165.", 81 ~{RSTIN} (io) "Reset Input with Schmitt-Trigger characteristics. A low level at this pin while the oscillator is running resets the C165. An internal pullup resistor permits power-on reset using only a capacitor connected to VSS. A spike (See Datasheet)", 82 ~{RSTOUT} (out) "Internal Reset Indication Output. This pin is set to a low level when the part is executing either a hardware-, a software- or a watchdog timer reset. R\S\T\O\U\T\ remains low until the EINIT (end of initialization) (See Datasheet)", 83 ~{NMI} (in) "Non-Maskable Interrupt Input. A high to low transition at this pin causes the CPU to vector to the NMI trap routine. When the PWRDN (power down) instruction is executed, the N\M\I\ pin must be low in order to force the C165 (See Datasheet)"
part C pins: 6 VSS (power) "Digital Ground.", 9 VDD (power) "Digital Supply Voltage:+ 5 V or + 3 V during normal operation and idle mode.= 2.5 V during power down mode.", 29 VSS (power) "Digital Ground.", 30 VDD (power) "Digital Supply Voltage:+ 5 V or + 3 V during normal operation and idle mode.= 2.5 V during power down mode.", 40 VDD (power) "Digital Supply Voltage:+ 5 V or + 3 V during normal operation and idle mode.= 2.5 V during power down mode.", 41 VSS (power) "Digital Ground.", 51 VDD (power) "Digital Supply Voltage:+ 5 V or + 3 V during normal operation and idle mode.= 2.5 V during power down mode.", 52 VSS (power) "Digital Ground.", 71 VDD (power) "Digital Supply Voltage:+ 5 V or + 3 V during normal operation and idle mode.= 2.5 V during power down mode.", 72 VSS (power) "Digital Ground.", 79 VSS (power) "Digital Ground.", 80 VDD (power) "Digital Supply Voltage:+ 5 V or + 3 V during normal operation and idle mode.= 2.5 V during power down mode."

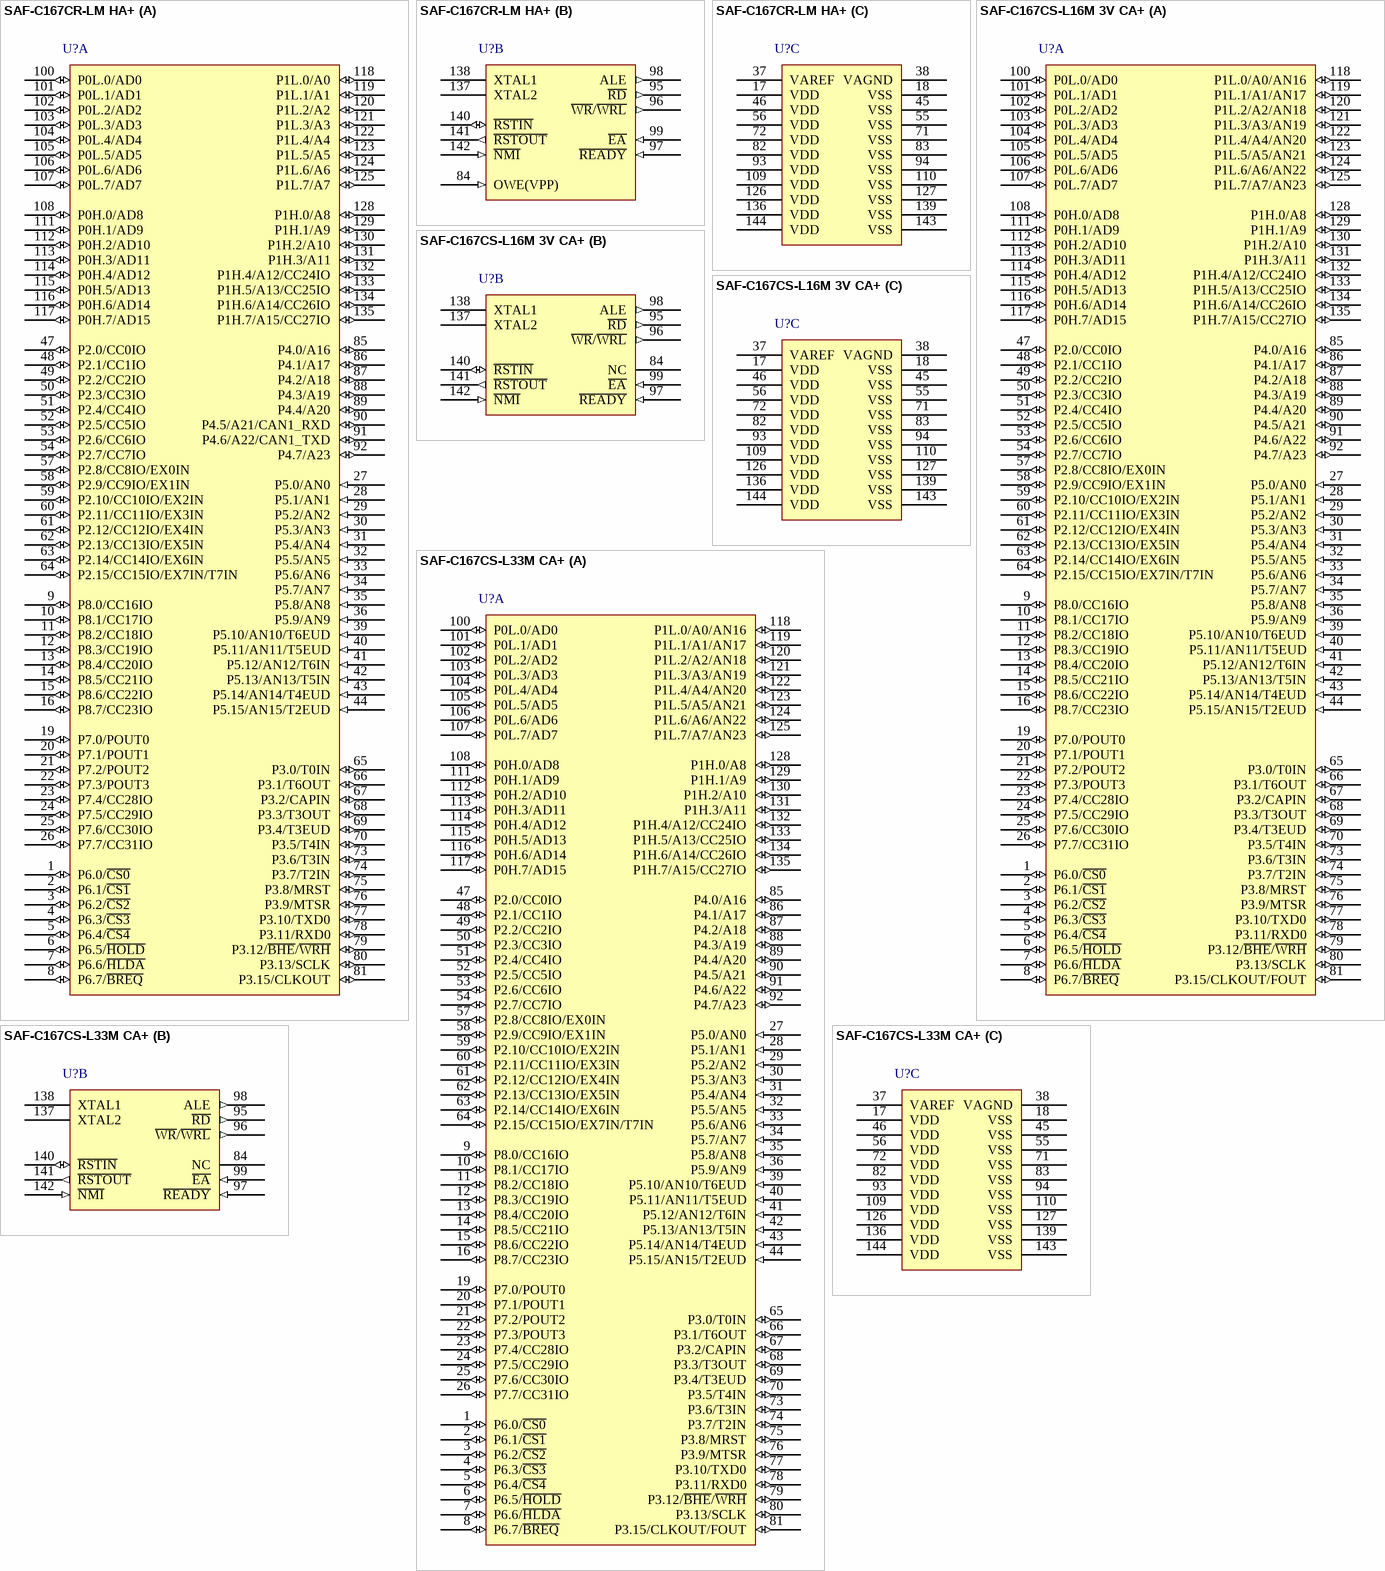
[diagram p12: symbols SAF-C167CR-LM HA+ to SAF-C167CS-L33M CA+]

## SAF-C167CR-LM HA+
designator U?
25 MHz C166 MCU without Program Memory, 4 KByte SRAM, 5 V, -40 to 85 degC, PG-MQFP-144, Reel, Green; Manufacturer: Infineon; PartNumber: SAF-C167CR-LM HA+; A / D input lines (incl. FADC): 16; CAN Nodes: 1; Digital I/O Lines: 111; DMA Channels: 0; DSP functionality (e.g MDU/MAC): TRUE; I/O Operation Voltages: 5 V; Max Clock Frequency: 25 MHz; Power Modes: 3; Serial I/O Interfaces: 2; SRAM (incl. Cache): 4 KByte; Timed I/O Pins (PWM-Ch,CAPCOM): 36; Timer / Counter: 9; Type of Memory: ROM less; Type of Serial I/O Interfaces: USART(1), SSC(1); DatasheetVersion: Rev. 3.3; PackageVersion: V3.3, 02/2005; PackageReference: P-MQFP-144-8; PackageDescription: 144-Pin Plastic Metric Quad Flat Package, Body 28 x 28 mm, Pitch 0.65 mm; Supplier 1: Farnell; Supplier Part Number 1: 2212051; Supplier 2: Digi-Key; Supplier Part Number 2: SAF-C167CR-LM HA+TR-ND; Supplier 3: Digi-Key; Supplier Part Number 3: SAF-C167CR-LM HA+CT-ND; Supplier 4: Digi-Key; Supplier Part Number 4: SAF-C167CR-LM HA+DKR-ND; External Bus interface: TRUE; Green: TRUE; Halogen-free: TRUE; Instruction width [bits]: 16; Number of ADC Modules: 1; Oscillator Watchdog: TRUE; Packing: Reel; Real Time Clock (RTC): TRUE; Watchdog Timer: TRUE; Mounting Technology: Surface Mount; ComponentLink1Description: Manufacturer URL; ComponentLink1URL: http://www.infineon.com/; ComponentLink2Description: Datasheet; ComponentLink2URL: http://www.infineon.com/dgdl/c167cr_ds_v3.3_2005_02.pdf?folderId=db3a304412b407950112b41daf4330b3&fileId=db3a304412b407950112b41daf9f30b4; ComponentLink3Description: Package Specification; ComponentLink3URL: http://www.infineon.com/dgdl/c167cr_ds_v3.3_2005_02.pdf?folderId=db3a304412b407950112b41daf4330b3&fileId=db3a304412b407950112b41daf9f30b4&sId=db3a30433d956bc3013d9c1c850a150c
footprint INF-P-MQFP-144-8_N (QFP, 144-Leads, Body 28x28mm, Pitch 0.65mm, IPC Medium Density)
footprint INF-P-MQFP-144-8_L (QFP, 144-Leads, Body 28x28mm, Pitch 0.65mm, IPC High Density)
footprint INF-P-MQFP-144-8_M (QFP, 144-Leads, Body 28x28mm, Pitch 0.65mm, IPC Low Density)
part A pins: 1 P6.0/~{CS0} (io), 2 P6.1/~{CS1} (io), 3 P6.2/~{CS2} (io), 4 P6.3/~{CS3} (io), 5 P6.4/~{CS4} (io), 6 P6.5/~{HOLD} (io), 7 P6.6/~{HLDA} (io), 8 P6.7/~{BREQ} (io), 9 P8.0/CC16IO (io), 10 P8.1/CC17IO (io), 11 P8.2/CC18IO (io), 12 P8.3/CC19IO (io), 13 P8.4/CC20IO (io), 14 P8.5/CC21IO (io), 15 P8.6/CC22IO (io), 16 P8.7/CC23IO (io), 19 P7.0/POUT0 (io), 20 P7.1/POUT1 (io), 21 P7.2/POUT2 (io), 22 P7.3/POUT3 (io), 23 P7.4/CC28IO (io), 24 P7.5/CC29IO (io), 25 P7.6/CC30IO (io), 26 P7.7/CC31IO (io), 27 P5.0/AN0 (in), 28 P5.1/AN1 (in), 29 P5.2/AN2 (in), 30 P5.3/AN3 (in), 31 P5.4/AN4 (in), 32 P5.5/AN5 (in), 33 P5.6/AN6 (in), 34 P5.7/AN7 (in), 35 P5.8/AN8 (in), 36 P5.9/AN9 (in), 39 P5.10/AN10/T6EUD (in), 40 P5.11/AN11/T5EUD (in), 41 P5.12/AN12/T6IN (in), 42 P5.13/AN13/T5IN (in), 43 P5.14/AN14/T4EUD (in), 44 P5.15/AN15/T2EUD (in), 47 P2.0/CC0IO (io), 48 P2.1/CC1IO (io), 49 P2.2/CC2IO (io), 50 P2.3/CC3IO (io), 51 P2.4/CC4IO (io), 52 P2.5/CC5IO (io), 53 P2.6/CC6IO (io), 54 P2.7/CC7IO (io), 57 P2.8/CC8IO/EX0IN (io), 58 P2.9/CC9IO/EX1IN (io), 59 P2.10/CC10IO/EX2IN (io), 60 P2.11/CC11IO/EX3IN (io), 61 P2.12/CC12IO/EX4IN (io), 62 P2.13/CC13IO/EX5IN (io), 63 P2.14/CC14IO/EX6IN (io), 64 P2.15/CC15IO/EX7IN/T7IN (io), 65 P3.0/T0IN (io), 66 P3.1/T6OUT (io), 67 P3.2/CAPIN (io), 68 P3.3/T3OUT (io), 69 P3.4/T3EUD (io), 70 P3.5/T4IN (io), 73 P3.6/T3IN (io), 74 P3.7/T2IN (io), 75 P3.8/MRST (io), 76 P3.9/MTSR (io), 77 P3.10/TXD0 (io), 78 P3.11/RXD0 (io), 79 P3.12/~{BHE}/~{WRH} (io), 80 P3.13/SCLK (io), 81 P3.15/CLKOUT (io), 85 P4.0/A16 (io), 86 P4.1/A17 (io), 87 P4.2/A18 (io), 88 P4.3/A19 (io), 89 P4.4/A20 (io), 90 P4.5/A21/CAN1_RXD (io), 91 P4.6/A22/CAN1_TXD (io), 92 P4.7/A23 (io), 100 P0L.0/AD0 (io), 101 P0L.1/AD1 (io), 102 P0L.2/AD2 (io), 103 P0L.3/AD3 (io), 104 P0L.4/AD4 (io), 105 P0L.5/AD5 (io), 106 P0L.6/AD6 (io), 107 P0L.7/AD7 (io), 108 P0H.0/AD8 (io), 111 P0H.1/AD9 (io), 112 P0H.2/AD10 (io), 113 P0H.3/AD11 (io), 114 P0H.4/AD12 (io), 115 P0H.5/AD13 (io), 116 P0H.6/AD14 (io), 117 P0H.7/AD15 (io), 118 P1L.0/A0 (io), 119 P1L.1/A1 (io), 120 P1L.2/A2 (io), 121 P1L.3/A3 (io), 122 P1L.4/A4 (io), 123 P1L.5/A5 (io), 124 P1L.6/A6 (io), 125 P1L.7/A7 (io), 128 P1H.0/A8 (io), 129 P1H.1/A9 (io), 130 P1H.2/A10 (io), 131 P1H.3/A11 (io), 132 P1H.4/A12/CC24IO (io), 133 P1H.5/A13/CC25IO (io), 134 P1H.6/A14/CC26IO (io), 135 P1H.7/A15/CC27IO (io)
part B pins: 84 OWE(VPP) (in) "Oscillator Watchdog Enable. This input enables the oscillator watchdog when high or disables it when low e.g. for testing purposes. An internal pull-up device holds this input high if nothing is driving it. For normal (See Datasheet)", 95 ~{RD} (out) "External Memory Read Strobe. R\D\ is activated for every external instruction or data read access.", 96 ~{WR}/~{WRL} (out) "External Memory Write Strobe. In W\R\-mode this pin is activated for every external data write access. In W\R\L\-mode this pin is activated for low byte data write accesses on a 16-bit bus, and for every data write access on (See Datasheet)", 97 ~{READY} (in) "Ready Input. When the Ready function is enabled, a high level at this pin during an external memory access will force the insertion of memory cycle time waitstates until the pin returns to a low level. An internal pull-up (See Datasheet)", 98 ALE (out) "Address Latch Enable Output. Can be used for latching the address into external memory or an address latch in the multiplexed bus modes.", 99 ~{EA} (in) "External Access Enable pin. A low level at this pin during and after Reset forces the C167CR to begin instruction execution out of external memory. A high level forces execution out of the internal program memory. “ROMless” (See Datasheet)", 137 XTAL2 "Output of the oscillator amplifier circuit.", 138 XTAL1 "Input to the oscillator amplifier and input to the internal clock generator", 140 ~{RSTIN} (io) "Reset Input with Schmitt-Trigger characteristics. A low level at this pin while the oscillator is running resets the C167CR. An internal pull-up resistor permits power-on reset using only a capacitor connected to VSS. A (See Datasheet)", 141 ~{RSTOUT} (out) "Internal Reset Indication Output. This pin is set to a low level when the part is executing either a hardware-, a software- or a watchdog timer reset. R\S\T\O\U\T\ remains low until the EINIT (end of initialization) (See Datasheet)", 142 ~{NMI} (in) "Non-Maskable Interrupt Input. A high to low transition at this pin causes the CPU to vector to the NMI trap routine. When the PWRDN (power down) instruction is executed, the N\M\I\ pin must be low in order to force the (See Datasheet)"
part C pins: 17 VDD (power) "Digital Supply Voltage: + 5 V during normal operation and idle mode. >= 2.5 V during power down mode.", 18 VSS (power) "Digital Ground.", 37 VAREF (power) "Reference voltage for the A/D converter.", 38 VAGND (power) "Reference ground for the A/D converter.", 45 VSS (power) "Digital Ground.", 46 VDD (power) "Digital Supply Voltage: + 5 V during normal operation and idle mode. >= 2.5 V during power down mode.", 55 VSS (power) "Digital Ground.", 56 VDD (power) "Digital Supply Voltage: + 5 V during normal operation and idle mode. >= 2.5 V during power down mode.", 71 VSS (power) "Digital Ground.", 72 VDD (power) "Digital Supply Voltage: + 5 V during normal operation and idle mode. >= 2.5 V during power down mode.", 82 VDD (power) "Digital Supply Voltage: + 5 V during normal operation and idle mode. >= 2.5 V during power down mode.", 83 VSS (power) "Digital Ground.", 93 VDD (power) "Digital Supply Voltage: + 5 V during normal operation and idle mode. >= 2.5 V during power down mode.", 94 VSS (power) "Digital Ground.", 109 VDD (power) "Digital Supply Voltage: + 5 V during normal operation and idle mode. >= 2.5 V during power down mode.", 110 VSS (power) "Digital Ground.", 126 VDD (power) "Digital Supply Voltage: + 5 V during normal operation and idle mode. >= 2.5 V during power down mode.", 127 VSS (power) "Digital Ground.", 136 VDD (power) "Digital Supply Voltage: + 5 V during normal operation and idle mode. >= 2.5 V during power down mode.", 139 VSS (power) "Digital Ground.", 143 VSS (power) "Digital Ground.", 144 VDD (power) "Digital Supply Voltage: + 5 V during normal operation and idle mode. >= 2.5 V during power down mode."

## SAF-C167CS-L16M 3V CA+
designator U?
16 MHz C166 MCU without Program Memory, 11 KByte SRAM, 3.3 V, -40 to 85 degC, PG-MQFP-144, Reel, Green; Manufacturer: Infineon; PartNumber: SAF-C167CS-L16M 3V CA+; A / D input lines (incl. FADC): 24; CAN Nodes: 2; Digital I/O Lines: 111; DMA Channels: 0; DSP functionality (e.g MDU/MAC): TRUE; I/O Operation Voltages: 3.3 V; Instruction width [bits]: 16; Max Clock Frequency: 16 MHz; Number of ADC Modules: 1; Power Modes: 3; Real Time Clock (RTC): FALSE; Timed I/O Pins (PWM-Ch,CAPCOM): 36; Timer / Counter: 9; Type of Memory: ROM less; Type of Serial I/O Interfaces: USART(1), SSC(1); DatasheetVersion: Rev. 1.0; PackageVersion: V2.2, 08/2001; PackageReference: P-MQFP-144-6; PackageDescription: 144-Pin Plastic Metric Quad Flat Package, Body 28 x 28 mm, Pitch 0.65 mm; Supplier 1: Digi-Key; Supplier Part Number 1: SAF-C167CS-L16M 3V CA+-ND; External Bus interface: TRUE; Green: TRUE; Halogen-free: TRUE; Oscillator Watchdog: TRUE; Packing: Reel; Serial I/O Interfaces: 2; SRAM (incl. Cache): 11 KByte; Watchdog Timer: TRUE; Mounting Technology: Surface Mount; ComponentLink1Description: Manufacturer URL; ComponentLink1URL: http://www.infineon.com/; ComponentLink2Description: Datasheet; ComponentLink2URL: http://www.infineon.com/dgdl/c167cs3v_ds_v1.0_2001_10.pdf?folderId=db3a304412b407950112b408e8c90004&fileId=db3a304412b407950112b4359ecf6348; ComponentLink3Description: Package Specification; ComponentLink3URL: http://www.infineon.com/dgdl/c167cs4r_ds_v2.2_2001_08.pdf?folderId=db3a304412b407950112b408e8c90004&fileId=db3a304412b407950112b435a34b634c
footprint INF-P-MQFP-144-6_N (QFP, 144-Leads, Body 28x28mm, Pitch 0.65mm, IPC Medium Density)
footprint INF-P-MQFP-144-6_L (QFP, 144-Leads, Body 28x28mm, Pitch 0.65mm, IPC High Density)
footprint INF-P-MQFP-144-6_M (QFP, 144-Leads, Body 28x28mm, Pitch 0.65mm, IPC Low Density)
part A pins: 1 P6.0/~{CS0} (io), 2 P6.1/~{CS1} (io), 3 P6.2/~{CS2} (io), 4 P6.3/~{CS3} (io), 5 P6.4/~{CS4} (io), 6 P6.5/~{HOLD} (io), 7 P6.6/~{HLDA} (io), 8 P6.7/~{BREQ} (io), 9 P8.0/CC16IO (io), 10 P8.1/CC17IO (io), 11 P8.2/CC18IO (io), 12 P8.3/CC19IO (io), 13 P8.4/CC20IO (io), 14 P8.5/CC21IO (io), 15 P8.6/CC22IO (io), 16 P8.7/CC23IO (io), 19 P7.0/POUT0 (io), 20 P7.1/POUT1 (io), 21 P7.2/POUT2 (io), 22 P7.3/POUT3 (io), 23 P7.4/CC28IO (io), 24 P7.5/CC29IO (io), 25 P7.6/CC30IO (io), 26 P7.7/CC31IO (io), 27 P5.0/AN0 (in), 28 P5.1/AN1 (in), 29 P5.2/AN2 (in), 30 P5.3/AN3 (in), 31 P5.4/AN4 (in), 32 P5.5/AN5 (in), 33 P5.6/AN6 (in), 34 P5.7/AN7 (in), 35 P5.8/AN8 (in), 36 P5.9/AN9 (in), 39 P5.10/AN10/T6EUD (in), 40 P5.11/AN11/T5EUD (in), 41 P5.12/AN12/T6IN (in), 42 P5.13/AN13/T5IN (in), 43 P5.14/AN14/T4EUD (in), 44 P5.15/AN15/T2EUD (in), 47 P2.0/CC0IO (io), 48 P2.1/CC1IO (io), 49 P2.2/CC2IO (io), 50 P2.3/CC3IO (io), 51 P2.4/CC4IO (io), 52 P2.5/CC5IO (io), 53 P2.6/CC6IO (io), 54 P2.7/CC7IO (io), 57 P2.8/CC8IO/EX0IN (io), 58 P2.9/CC9IO/EX1IN (io), 59 P2.10/CC10IO/EX2IN (io), 60 P2.11/CC11IO/EX3IN (io), 61 P2.12/CC12IO/EX4IN (io), 62 P2.13/CC13IO/EX5IN (io), 63 P2.14/CC14IO/EX6IN (io), 64 P2.15/CC15IO/EX7IN/T7IN (io), 65 P3.0/T0IN (io), 66 P3.1/T6OUT (io), 67 P3.2/CAPIN (io), 68 P3.3/T3OUT (io), 69 P3.4/T3EUD (io), 70 P3.5/T4IN (io), 73 P3.6/T3IN (io), 74 P3.7/T2IN (io), 75 P3.8/MRST (io), 76 P3.9/MTSR (io), 77 P3.10/TXD0 (io), 78 P3.11/RXD0 (io), 79 P3.12/~{BHE}/~{WRH} (io), 80 P3.13/SCLK (io), 81 P3.15/CLKOUT/FOUT (io), 85 P4.0/A16 (io), 86 P4.1/A17 (io), 87 P4.2/A18 (io), 88 P4.3/A19 (io), 89 P4.4/A20 (io), 90 P4.5/A21 (io), 91 P4.6/A22 (io), 92 P4.7/A23 (io), 100 P0L.0/AD0 (io), 101 P0L.1/AD1 (io), 102 P0L.2/AD2 (io), 103 P0L.3/AD3 (io), 104 P0L.4/AD4 (io), 105 P0L.5/AD5 (io), 106 P0L.6/AD6 (io), 107 P0L.7/AD7 (io), 108 P0H.0/AD8 (io), 111 P0H.1/AD9 (io), 112 P0H.2/AD10 (io), 113 P0H.3/AD11 (io), 114 P0H.4/AD12 (io), 115 P0H.5/AD13 (io), 116 P0H.6/AD14 (io), 117 P0H.7/AD15 (io), 118 P1L.0/A0/AN16 (io), 119 P1L.1/A1/AN17 (io), 120 P1L.2/A2/AN18 (io), 121 P1L.3/A3/AN19 (io), 122 P1L.4/A4/AN20 (io), 123 P1L.5/A5/AN21 (io), 124 P1L.6/A6/AN22 (io), 125 P1L.7/A7/AN23 (io), 128 P1H.0/A8 (io), 129 P1H.1/A9 (io), 130 P1H.2/A10 (io), 131 P1H.3/A11 (io), 132 P1H.4/A12/CC24IO (io), 133 P1H.5/A13/CC25IO (io), 134 P1H.6/A14/CC26IO (io), 135 P1H.7/A15/CC27IO (io)
part B pins: 84 NC "Oscillator Watchdog Enable. This input enables the oscillator watchdog when high or disables it when low e.g. for testing purposes. An internal pull-up device holds this input high if nothing is driving it. For normal (See Datasheet)", 95 ~{RD} (out) "External Memory Read Strobe. R\D\ is activated for every external instruction or data read access.", 96 ~{WR}/~{WRL} (out) "External Memory Write Strobe. In W\R\-mode this pin is activated for every external data write access. In W\R\L\-mode this pin is activated for low byte data write accesses on a 16-bit bus, and for every data write access on (See Datasheet)", 97 ~{READY} (in) "Ready Input. When the Ready function is enabled, a high level at this pin during an external memory access will force the insertion of memory cycle time waitstates until the pin returns to a low level.An internal pullup (See Datasheet)", 98 ALE (out) "Address Latch Enable Output. Can be used for latching theaddress into external memory or an address latch in themultiplexed bus modes.", 99 ~{EA} (in) "External Access Enable pin", 137 XTAL2 "Output of the oscillator amplifier circuit.", 138 XTAL1 "Input to the oscillator amplifier and input to the internal clock generator", 140 ~{RSTIN} (io) "Reset Input with Schmitt-Trigger characteristics.", 141 ~{RSTOUT} (out) "Internal Reset Indication Output. This pin is set to a low level when the part is executing either a hardware-, a software- or a watchdog timer reset. R\S\T\O\U\T\ remains low until the EINIT (end of initialization) (See Datasheet)", 142 ~{NMI} (in) "Non-Maskable Interrupt Input"
part C pins: 17 VDD (power) "Digital Supply Voltage", 18 VSS (power) "Digital Ground.", 37 VAREF (power) "Reference voltage for the A/D converter.", 38 VAGND (power) "Reference ground for the A/D converter.", 45 VSS (power) "Digital Ground.", 46 VDD (power) "Digital Supply Voltage", 55 VSS (power) "Digital Ground.", 56 VDD (power) "Digital Supply Voltage", 71 VSS (power) "Digital Ground.", 72 VDD (power) "Digital Supply Voltage", 82 VDD (power) "Digital Supply Voltage", 83 VSS (power) "Digital Ground.", 93 VDD (power) "Digital Supply Voltage", 94 VSS (power) "Digital Ground.", 109 VDD (power) "Digital Supply Voltage", 110 VSS (power) "Digital Ground.", 126 VDD (power) "Digital Supply Voltage", 127 VSS (power) "Digital Ground.", 136 VDD (power) "Digital Supply Voltage", 139 VSS (power) "Digital Ground.", 143 VSS (power) "Digital Ground.", 144 VDD (power) "Digital Supply Voltage"